# Altium schematic symbol library image_sensors.SchLib: 2 symbols
Pins are listed as number, name and electrical type; pins without a type are passive.

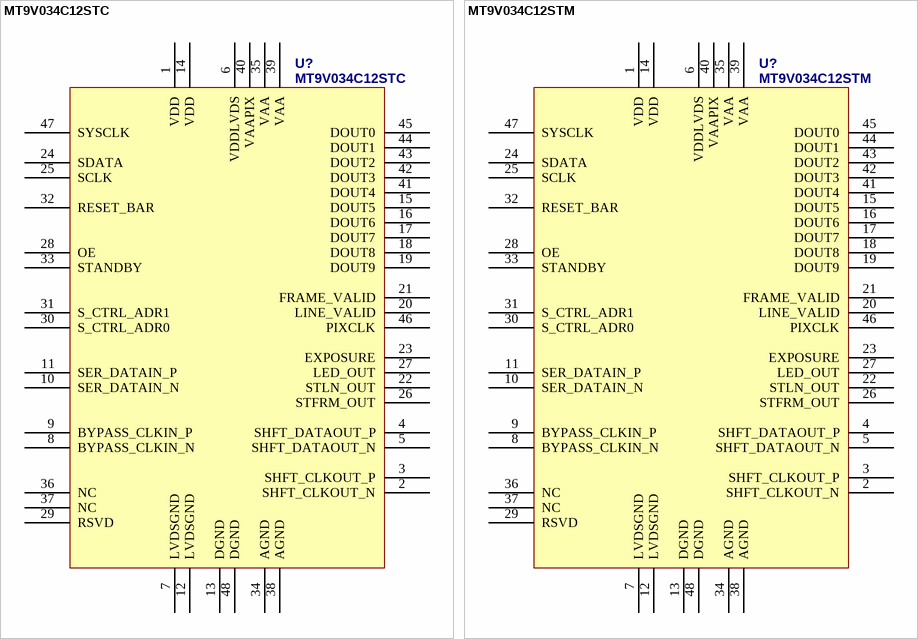
[diagram p0: symbols MT9V034C12STC to MT9V034C12STM]

## MT9V034C12STC
designator U?
1/3-Inch Wide-VGA CMOS Digital Image Sensor
footprint LCC80P1143X1143X230-48M (LCC, 48-Pins, Body 11,43x11,43mmx2,30mm, Pitch 0,80mm, IPC Low Density)
pins: 1 VDD, 2 SHFT_CLKOUT_N, 3 SHFT_CLKOUT_P, 4 SHFT_DATAOUT_P, 5 SHFT_DATAOUT_N, 6 VDDLVDS, 7 LVDSGND, 8 BYPASS_CLKIN_N, 9 BYPASS_CLKIN_P, 10 SER_DATAIN_N, 11 SER_DATAIN_P, 12 LVDSGND, 13 DGND, 14 VDD, 15 DOUT5, 16 DOUT6, 17 DOUT7, 18 DOUT8, 19 DOUT9, 20 LINE_VALID, 21 FRAME_VALID, 22 STLN_OUT, 23 EXPOSURE, 24 SDATA, 25 SCLK, 26 STFRM_OUT, 27 LED_OUT, 28 OE, 29 RSVD, 30 S_CTRL_ADR0, 31 S_CTRL_ADR1, 32 RESET_BAR, 33 STANDBY, 34 AGND, 35 VAA, 36 NC, 37 NC, 38 AGND, 39 VAA, 40 VAAPIX, 41 DOUT4, 42 DOUT3, 43 DOUT2, 44 DOUT1, 45 DOUT0, 46 PIXCLK, 47 SYSCLK, 48 DGND

## MT9V034C12STM
designator U?
1/3-Inch Wide-VGA CMOS Digital Image Sensor
footprint LCC80P1143X1143X230-48M (LCC, 48-Pins, Body 11,43x11,43mmx2,30mm, Pitch 0,80mm, IPC Low Density)
pins: 1 VDD, 2 SHFT_CLKOUT_N, 3 SHFT_CLKOUT_P, 4 SHFT_DATAOUT_P, 5 SHFT_DATAOUT_N, 6 VDDLVDS, 7 LVDSGND, 8 BYPASS_CLKIN_N, 9 BYPASS_CLKIN_P, 10 SER_DATAIN_N, 11 SER_DATAIN_P, 12 LVDSGND, 13 DGND, 14 VDD, 15 DOUT5, 16 DOUT6, 17 DOUT7, 18 DOUT8, 19 DOUT9, 20 LINE_VALID, 21 FRAME_VALID, 22 STLN_OUT, 23 EXPOSURE, 24 SDATA, 25 SCLK, 26 STFRM_OUT, 27 LED_OUT, 28 OE, 29 RSVD, 30 S_CTRL_ADR0, 31 S_CTRL_ADR1, 32 RESET_BAR, 33 STANDBY, 34 AGND, 35 VAA, 36 NC, 37 NC, 38 AGND, 39 VAA, 40 VAAPIX, 41 DOUT4, 42 DOUT3, 43 DOUT2, 44 DOUT1, 45 DOUT0, 46 PIXCLK, 47 SYSCLK, 48 DGND